# Altium footprint library 2020-04-06_13-32-46.PcbLib: 3 footprints
Each footprint in its own frame and in the unit in brackets; x right, y up, seen from the top. Pads: shape width x height; smd on the part's side, far side on the other; paste and mask are expansions set on the pad; w line width, h text height; cw(c..) or ccw(c..) is an arc to the next point about the centre after c.
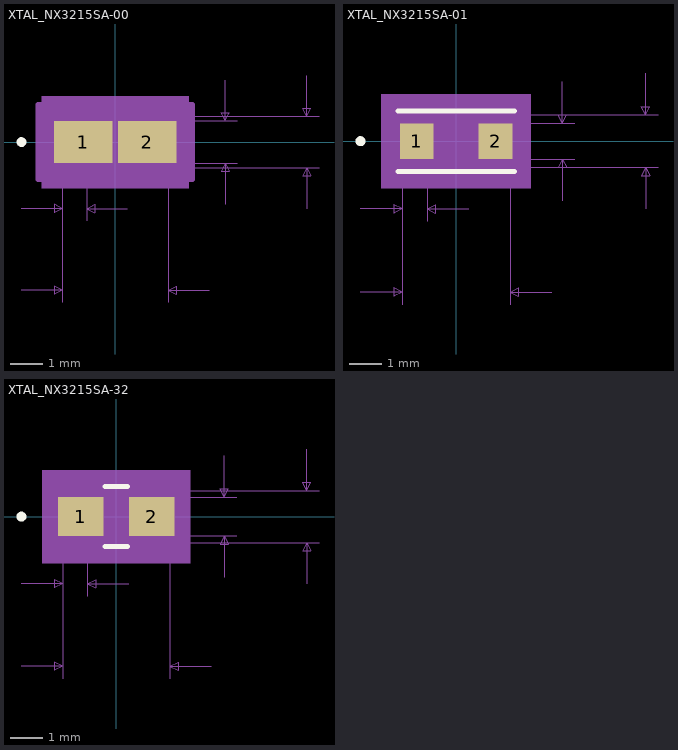
[diagram p0: the footprints below, top view; thin cyan lines are the x and y axes]

## XTAL_NX3215SA-00 [mm]
pads (2):
  rect 1.812x1.315 smd paste+0 mask+0: 1(-0.995,0) 2(0.995,0)
Top Overlay:
  circle w0.152: c-2.921,0 r0.076
Mechanical 5:
  region: 2.286,-1.435 -2.286,-1.435 -2.286,1.435 2.286,1.435
Mechanical 7:
  lines w0.025: -2.921,-4.61 -1.651,-4.61 ; -2.921,-2.07 -1.651,-2.07 ; -1.651,-4.991 -1.651,0 -1.651,-2.451 ; -0.889,-2.451 -0.889,0 ; 0.381,-2.07 -0.889,-2.07 ; 1.651,-4.991 1.651,0 ; 2.155,-0.8 6.346,-0.8 ; 2.155,-0.658 3.806,-0.658 ; 2.155,0.658 3.806,0.658 ; 2.155,0.8 6.346,0.8 ; 2.921,-4.61 1.651,-4.61 ; 3.425,-1.928 3.425,-0.658 ; 3.425,1.928 3.425,0.658 ; 5.965,-2.07 5.965,-0.8 ; 5.965,2.07 5.965,0.8 ; -1.651,-4.61 -1.905,-4.483 -1.905,-4.737 -1.651,-4.61 ; -1.651,-2.07 -1.905,-1.943 -1.905,-2.197 -1.651,-2.07 ; -0.889,-2.07 -0.635,-1.943 -0.635,-2.197 -0.889,-2.07 ; 1.651,-4.61 1.905,-4.483 1.905,-4.737 1.651,-4.61 ; 3.425,-0.658 3.298,-0.912 3.552,-0.912 3.425,-0.658 ; 3.425,0.658 3.298,0.912 3.552,0.912 3.425,0.658 ; 5.965,-0.8 5.838,-1.054 6.092,-1.054 5.965,-0.8 ; 5.965,0.8 5.838,1.054 6.092,1.054 5.965,0.8
  text "Default Padstyle: r181_132" at -8.255,-7.15 h1.27
  text "Alt 1 Padstyle: b152_229h76" at -8.572,-9.055 h1.27
  text "Alt 2 Padstyle: b229_152h76" at -8.572,-10.96 h1.27
  text "0.051in/1.295mm" at 3.933,-0.318 h0.64
  text "0.063in/1.6mm" at 6.473,-0.318 h0.64
  text "0.13in/3.302mm" at -2.222,-5.753 h0.64
  text "0.03in/0.762mm" at -3.492,-3.213 h0.64
Mechanical 13:
  circle w0: c-1.143,0 r0.076
  lines w0.025: -1.905,-1.054 -1.905,1.054 1.905,1.054 1.905,-1.054 -1.905,-1.054 ; -1.651,-0.8 1.651,-0.8 1.651,0.8 -1.651,0.8 -1.651,-0.8
Mechanical 15:
  region: -2.159,-1.166 -2.413,-1.166 -2.413,1.166 -2.159,1.166 -2.159,1.308 2.159,1.308 2.159,1.166 2.413,1.166 2.413,-1.166 2.159,-1.166 2.159,-1.308 -2.159,-1.308
  lines w0.152: -2.413,-1.166 -2.413,1.166 -2.159,1.166 -2.159,1.308 2.159,1.308 2.159,1.166 2.413,1.166 2.413,-1.166 2.159,-1.166 2.159,-1.308 -2.159,-1.308 -2.159,-1.166 -2.413,-1.166
3D body: height 0.25, standoff 0, extent 0,0 0.254,0.254

## XTAL_NX3215SA-01 [mm]
pads (2):
  rect 1.032x1.095 smd paste+0 mask+0: 1(-1.205,0) 2(1.205,0)
Top Overlay:
  circle w0.152: c-2.921,0 r0.076
  lines w0.152: -1.778,-0.927 1.778,-0.927 ; -1.778,0.927 1.778,0.927
Mechanical 5:
  region: 2.286,-1.435 -2.286,-1.435 -2.286,1.435 2.286,1.435
Mechanical 7:
  lines w0.025: -2.921,-4.61 -1.651,-4.61 ; -2.921,-2.07 -1.651,-2.07 ; -1.651,-4.991 -1.651,0 -1.651,-2.451 ; -0.889,-2.451 -0.889,0 ; 0.381,-2.07 -0.889,-2.07 ; 1.651,-4.991 1.651,0 ; 1.975,-0.8 6.166,-0.8 ; 1.975,-0.548 3.626,-0.548 ; 1.975,0.548 3.626,0.548 ; 1.975,0.8 6.166,0.8 ; 2.921,-4.61 1.651,-4.61 ; 3.245,-1.818 3.245,-0.548 ; 3.245,1.818 3.245,0.548 ; 5.785,-2.07 5.785,-0.8 ; 5.785,2.07 5.785,0.8 ; -1.651,-4.61 -1.905,-4.483 -1.905,-4.737 -1.651,-4.61 ; -1.651,-2.07 -1.905,-1.943 -1.905,-2.197 -1.651,-2.07 ; -0.889,-2.07 -0.635,-1.943 -0.635,-2.197 -0.889,-2.07 ; 1.651,-4.61 1.905,-4.483 1.905,-4.737 1.651,-4.61 ; 3.245,-0.548 3.118,-0.802 3.372,-0.802 3.245,-0.548 ; 3.245,0.548 3.118,0.802 3.372,0.802 3.245,0.548 ; 5.785,-0.8 5.658,-1.054 5.912,-1.054 5.785,-0.8 ; 5.785,0.8 5.658,1.054 5.912,1.054 5.785,0.8
  text "Default Padstyle: r103_110" at -8.255,-7.15 h1.27
  text "Alt 1 Padstyle: b152_229h76" at -8.572,-9.055 h1.27
  text "Alt 2 Padstyle: b229_152h76" at -8.572,-10.96 h1.27
  text "0.051in/1.295mm" at 3.753,-0.318 h0.64
  text "0.063in/1.6mm" at 6.293,-0.318 h0.64
  text "0.13in/3.302mm" at -2.222,-5.753 h0.64
  text "0.03in/0.762mm" at -3.492,-3.213 h0.64
Mechanical 13:
  circle w0: c-1.143,0 r0.076
  lines w0.025: -1.905,-1.054 -1.905,1.054 1.905,1.054 1.905,-1.054 -1.905,-1.054 ; -1.651,-0.8 1.651,-0.8 1.651,0.8 -1.651,0.8 -1.651,-0.8
Mechanical 15:
  region: -1.753,-0.649 -2.007,-0.649 -2.007,0.649 -1.753,0.649 -1.753,0.902 1.753,0.902 1.753,0.649 2.007,0.649 2.007,-0.649 1.753,-0.649 1.753,-0.902 -1.753,-0.902
  lines w0.152: -2.007,-0.649 -2.007,0.649 -1.753,0.649 -1.753,0.902 1.753,0.902 1.753,0.649 2.007,0.649 2.007,-0.649 1.753,-0.649 1.753,-0.902 -1.753,-0.902 -1.753,-0.649 -2.007,-0.649
3D body: height 0.25, standoff 0, extent 0,0 0.254,0.254

## XTAL_NX3215SA-32 [mm]
pads (2):
  rect 1.412x1.195 smd paste+0 mask+0: 1(-1.095,0) 2(1.095,0)
Top Overlay:
  circle w0.152: c-2.921,0 r0.076
  lines w0.152: -0.342,-0.927 0.342,-0.927 ; -0.342,0.927 0.342,0.927
Mechanical 5:
  region: 2.286,-1.435 -2.286,-1.435 -2.286,1.435 2.286,1.435
Mechanical 7:
  lines w0.025: -2.921,-4.61 -1.651,-4.61 ; -2.921,-2.07 -1.651,-2.07 ; -1.651,-4.991 -1.651,0 -1.651,-2.451 ; -0.889,-2.451 -0.889,0 ; 0.381,-2.07 -0.889,-2.07 ; 1.651,-4.991 1.651,0 ; 2.055,-0.8 6.246,-0.8 ; 2.055,-0.598 3.706,-0.598 ; 2.055,0.598 3.706,0.598 ; 2.055,0.8 6.246,0.8 ; 2.921,-4.61 1.651,-4.61 ; 3.325,-1.868 3.325,-0.598 ; 3.325,1.868 3.325,0.598 ; 5.865,-2.07 5.865,-0.8 ; 5.865,2.07 5.865,0.8 ; -1.651,-4.61 -1.905,-4.483 -1.905,-4.737 -1.651,-4.61 ; -1.651,-2.07 -1.905,-1.943 -1.905,-2.197 -1.651,-2.07 ; -0.889,-2.07 -0.635,-1.943 -0.635,-2.197 -0.889,-2.07 ; 1.651,-4.61 1.905,-4.483 1.905,-4.737 1.651,-4.61 ; 3.325,-0.598 3.198,-0.852 3.452,-0.852 3.325,-0.598 ; 3.325,0.598 3.198,0.852 3.452,0.852 3.325,0.598 ; 5.865,-0.8 5.738,-1.054 5.992,-1.054 5.865,-0.8 ; 5.865,0.8 5.738,1.054 5.992,1.054 5.865,0.8
  text "Default Padstyle: r141_120" at -8.255,-7.15 h1.27
  text "Alt 1 Padstyle: b152_229h76" at -8.572,-9.055 h1.27
  text "Alt 2 Padstyle: b229_152h76" at -8.572,-10.96 h1.27
  text "0.051in/1.295mm" at 3.833,-0.318 h0.64
  text "0.063in/1.6mm" at 6.373,-0.318 h0.64
  text "0.13in/3.302mm" at -2.222,-5.753 h0.64
  text "0.03in/0.762mm" at -3.492,-3.213 h0.64
Mechanical 13:
  circle w0: c-1.143,0 r0.076
  lines w0.025: -1.905,-1.054 -1.905,1.054 1.905,1.054 1.905,-1.054 -1.905,-1.054 ; -1.651,-0.8 1.651,-0.8 1.651,0.8 -1.651,0.8 -1.651,-0.8
Mechanical 15:
  region: -1.905,-0.852 -2.159,-0.852 -2.159,0.852 -1.905,0.852 -1.905,1.054 1.905,1.054 1.905,0.852 2.159,0.852 2.159,-0.852 1.905,-0.852 1.905,-1.054 -1.905,-1.054
  lines w0.152: -2.159,-0.852 -2.159,0.852 -1.905,0.852 -1.905,1.054 1.905,1.054 1.905,0.852 2.159,0.852 2.159,-0.852 1.905,-0.852 1.905,-1.054 -1.905,-1.054 -1.905,-0.852 -2.159,-0.852
3D body: height 0.25, standoff 0, extent 0,0 0.254,0.254